# Altium schematic symbol library Clock.SchLib: 1 symbol
Pins are listed as number, name and electrical type; pins without a type are passive.

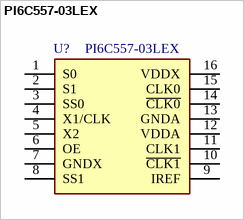
[diagram p0: symbol PI6C557-03LEX]

## PI6C557-03LEX
designator U?
200MHz 2 TSSOP-16 Clock Generators / Frequency Synthesizers / PLL ROHS
footprint SOP65P640X120-16N
pins: 1 S0, 2 S1, 3 SS0, 4 X1/CLK, 5 X2, 6 OE, 7 GNDX, 8 SS1, 9 IREF, 10 ~{CLK1}, 11 CLK1, 12 VDDA, 13 GNDA, 14 ~{CLK0}, 15 CLK0, 16 VDDX